# Altium schematic symbol library Sch.SchLib: 5 symbols
Pins are listed as number, name and electrical type; pins without a type are passive.

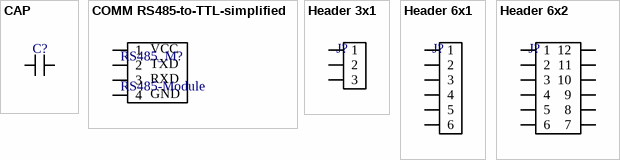
[diagram p0: symbols CAP to Header 6x2]

## CAP
designator C?
Capacitor
footprint CAP-CERAMIC-100mil (CN1)
footprint CAP-CERAMIC-100mil-TA (CN1-TA)
footprint CAP-CERAMIC-200mil
footprint CAP-CERAMIC-200mil-B (CN2-B)
footprint CAP-CERAMIC-200mil-G (CN2-G)
footprint CAP-CERAMIC-200mil-LT (CN2-LT)
footprint CAP-CERAMIC-200mil-O (CN2-O)
footprint CAP-CERAMIC-200mil-R (CN2-R)
footprint CAP-CERAMIC-200mil-T (CN2-T)
footprint CAP-CERAMIC-250mil (CN2.5 250mil)
footprint CAP-CERAMIC-250mil-BR (CN2.5-BR 250mil)
footprint CAP-CERAMIC-250mil-RV (CN2.5-RV)
footprint CAP-CERAMIC-300mil (Cap np W 0.3)
footprint CAP-CERAMIC-300mil-B (Cap np W 0.3)
footprint CAP-CERAMIC-350mil (Cap np W 0.3)
footprint CAP-CERAMIC-400mil
footprint CAP-CERAMIC-600mil (CAP60)
footprint CAP-CERAMIC-700mil
footprint CAP-CERAMIC-1100mil (CAP110)
footprint CAP-SMD-0402
footprint CAP-SMD-0603
footprint CAP-SMD-0805
footprint CAP-SMD-1206
footprint CAP-SMD-2520 (TOKO INDUCTOR DFE252012 SERIES)
footprint CAP-SMD-3225 (Chip Capacitor, Body 3.2x2.5mm, IPC Medium Density)
footprint CAP-CERAMIC-100mil-BPAD (CN1)
pins: 1, 2

## COMM RS485-to-TTL-simplified
designator RS485_M?, comment RS485-Module
https://www.thegioiic.com/products/mach-chuyen-doi-rs485-to-ttl
footprint COMM-RS485-to-TTL-MODULE-SIMPLIFIED (5#RS485 to TTL module)
footprint COMM-RS485-to-TTL-MODULE-SIMPLIFIED-BPAD (5#RS485 to TTL module)
pins: 1, 2, 3, 4
text: VCC; TXD; RXD; GND

## Header 3x1
designator J?
footprint TER-KF3
footprint TER-J3x1-F-2.54mm (3 row, straight, gold plating, JP3-C1T)
footprint TER-H3 (HDR3)
footprint TER-WIRING_PAD3
footprint TER-J3x1-F-2.54mm-V (03p 1 row Right angle, JP3-C1C)
footprint TER-J3x1-M-2.54mm (3 pins, 1 row, straight, gold plating, JP3-D1T)
footprint TER-J3x1-M-2.54mm-CLOSED (JP3-CLOSED)
footprint TER-J3x1-M-2.54mm-V (3 pins, 1 row, right angled, gold plating, JP3-D1C)
footprint TER-KF3-3.5 (3,50mm - modular - blue - Horizontal wire entry - Pressure clamp - 8,4mm height - 03p)
footprint TER-KF3-3.96-T1 (3,96mm - modular - blue - Horizontal wire entry - Pressure clamp - 10mm height - 03p)
footprint TER-KF3-5.08
footprint TER-KF3-5.08T (Header 3, 3 pin, hight 300mil, Pin to Pin 200, Colour Green)
footprint TER-KF3-7.62
footprint TER-KF3-8.5
footprint TER-KF3-10 (Serie 1368 - 10.00 mm _ 3 pins)
footprint TER-J3x1-M-2.54mm-BPAD (3 pins, 1 row, straight, gold plating, JP3-D1T)
pins: 1, 2, 3

## Header 6x1
designator J?
footprint TER-J6x1-F-2mm (6p, 1 row, straight, gold plating, J6-C1T)
footprint TER-J6x1-F-2.54mm (6 row, straight, gold plating, JP6-C1T)
footprint TER-J6x1-F-2.54mm-V (06p 1 row Right angle, JP6-C1C)
footprint TER-J6x1-M-2mm (6 pins, 1 row, straight, gold plating, J6-D1T)
footprint TER-J6x1-M-2.54mm (6 pins, 1 row, straight, gold plating, JP6-D1T)
footprint TER-J6x1-M-2.54mm-V (6 pins, 1 row, right angled, gold plating, JP6-D1C)
footprint TER-J6x1-M-2.54mm-BPAD (6 pins, 1 row, straight, gold plating, JP6-D1T)
pins: 1, 2, 3, 4, 5, 6

## Header 6x2
designator J?
footprint TER-J6x2-F-2.54mm (12 pins, dual row, straight, gold plating, JP6-C2T)
footprint TER-J6x2-F-2.54mm-V (12p 2 rows Right angle, JP6-C2C)
footprint TER-J6x2-M-2.54mm (12 pins, dual pin, straight, gold plating, JP6-D2T)
footprint TER-J6x2-M-2.54mm-V (12 pins, dual row, right angled, gold plating, JP6-D2C)
footprint TER-J6x2-M-2.54mm-V-BPAD (12 pins, dual row, right angled, gold plating, JP6-D2C)
pins: 1, 2, 3, 4, 5, 6, 7, 8, 9, 10, 11, 12